# EAGLE library part MAX756 (library digital-toy)
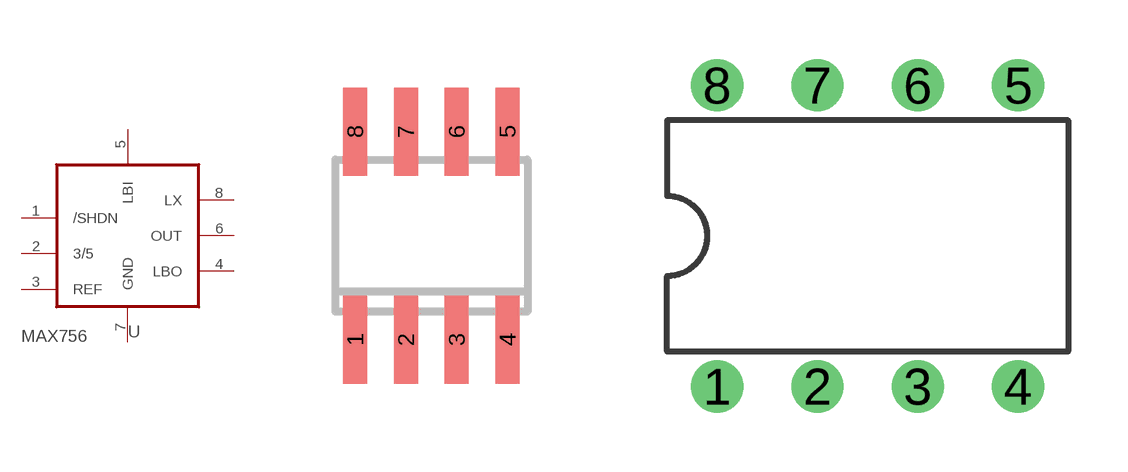
[diagram p21: symbol with the pads of SO08; footprints SO08, DIL08]

Designator prefix -

## MAX756CSA  [SO08]
1  /SHDN  in
2  3/5
3  REF  pas
4  LBO  in
5  LBI  in
6  OUT  out
7  GND  pwr
8  LX  out

## MAX756CPA  [DIL08]
Pads as for SO08

## MAX756RF  [DIP8-RF]
Pads as for SO08

## Footprint SO08 (pad centres in mm)
Small Outline Package 8 NS Package M08A
smd 0.6 x 2.2: 1 -1.905,-2.6; 2 -0.635,-2.6; 3 0.635,-2.6; 4 1.905,-2.6; 5 1.905,2.6; 6 0.635,2.6; 7 -0.635,2.6; 8 -1.905,2.6

## Footprint DIL08 (pad centres in mm)
Dual In Line Package
drill 0.813 pad 1.27 round: 1 -3.81,-3.81; 2 -1.27,-3.81; 3 1.27,-3.81; 4 3.81,-3.81; 5 3.81,3.81; 6 1.27,3.81; 7 -1.27,3.81; 8 -3.81,3.81

## Footprint DIP8-RF (pad centres in mm)
Digital toy packages avoid drill too many hole,just soldering..., and good for RF prototype board
smd 1.27 x 3.81: 1 0,-3.81; 2 2.54,-3.81; 3 5.08,-3.81; 4 7.62,-3.81; 5 7.62,6.35; 6 5.08,6.35; 7 2.54,6.35; 8 0,6.35